# Altium schematic symbol library Diode_Vishay_1N4148W-HE3-08_eec.SchLib: 1 symbol
Pins are listed as number, name and electrical type; pins without a type are passive.

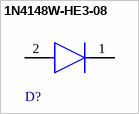
[diagram p0: symbol 1N4148W-HE3-08]

## 1N4148W-HE3-08
designator D?  (value not drawn)
pins: 1 C, 2 A